# Altium schematic symbol library SCH - CRYSTALS - NDK NX3225GD.SCHLIB: 1 symbol
Pins are listed as number, name and electrical type; pins without a type are passive.

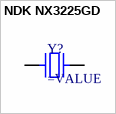
[diagram p0: symbol NDK NX3225GD]

## NDK NX3225GD
designator Y?
SMT Crystal
pins: 1, 2